# EAGLE library part SI4060 (library fbri)
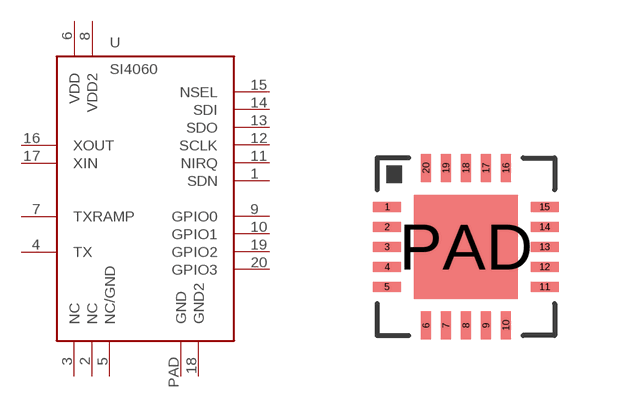
[diagram p1: symbol with the pads of QFN20; footprint QFN20]

Designator prefix -

## SI4060  [QFN20]
1  SDN  in
2  NC  nc
3  NC   nc
4  TX  out
5  NC/GND
6  VDD  pwr
7  TXRAMP
8  VDD2  pwr
9  GPIO0
10  GPIO1
11  NIRQ  out
12  SCLK  in
13  SDO  out
14  SDI
15  NSEL  in
16  XOUT  out
17  XIN  in
18  GND2  pwr
19  GPIO2
20  GPIO3
PAD  GND  pwr

## Footprint QFN20 (pad centres in mm)
smd 0.7 x 0.25: 1 -1.97,1; 2 -1.97,0.5; 3 -1.97,0; 4 -1.97,-0.5; 5 -1.97,-1; 11 1.97,-1; 12 1.97,-0.5; 13 1.97,0; 14 1.97,0.5; 15 1.97,1
smd 0.25 x 0.7: 6 -1,-1.97; 7 -0.5,-1.97; 8 0,-1.97; 9 0.5,-1.97; 10 1,-1.97; 16 1,1.97; 17 0.5,1.97; 18 0,1.97; 19 -0.5,1.97; 20 -1,1.97
smd 2.6 x 2.6: PAD 0,0